# EAGLE library part P2110B (library P2110B)
Energy Harvesting Modules Powerharvester Receiver - 915 MHz Source: Datasheet <https://componentsearchengine.com/Datasheets/1/P2110B.pdf>
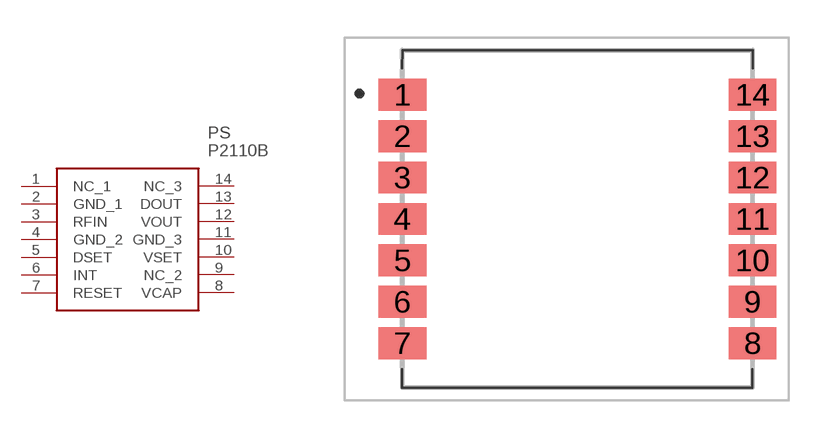
[diagram p0: symbol with the pads of P2110B; footprint P2110B]

Designator prefix PS

## P2110B (Description: Energy Harvesting Modules Powerharvester Receiver - 915 MHz; Height: 2.3114mm; Manufacturer_Name: Powercast; Manufacturer_Part_Number: P2110B; Mouser_Part_Number: 582-P2110B; Mouser_Price-Stock: https://www.mouser.co.uk/ProductDetail/Powercast/P2110B?qs=VAB4DzKv5wViaDUvcUIcdQ%3D%3D)  [P2110B]
1  NC_1
2  GND_1
3  RFIN
4  GND_2
5  DSET
6  INT
7  RESET
8  VCAP
9  NC_2
10  VSET
11  GND_3
12  VOUT
13  DOUT
14  NC_3

## Footprint P2110B (pad centres in mm)
P2110B-1
smd 1.905 x 1.27: 1 -6.985,4.953; 2 -6.985,3.302; 3 -6.985,1.651; 4 -6.985,0; 5 -6.985,-1.651; 6 -6.985,-3.302; 7 -6.985,-4.953; 8 6.985,-4.953; 9 6.985,-3.302; 10 6.985,-1.651; 11 6.985,0; 12 6.985,1.651; 13 6.985,3.302; 14 6.985,4.953